# Altium footprint library Master.PcbLib: 26 footprints (part 1 of 2)
Each footprint in its own frame and in the unit in brackets; x right, y up, seen from the top. Pads: shape width x height; smd on the part's side, far side on the other; paste and mask are expansions set on the pad; w line width, h text height; cw(c..) or ccw(c..) is an arc to the next point about the centre after c.
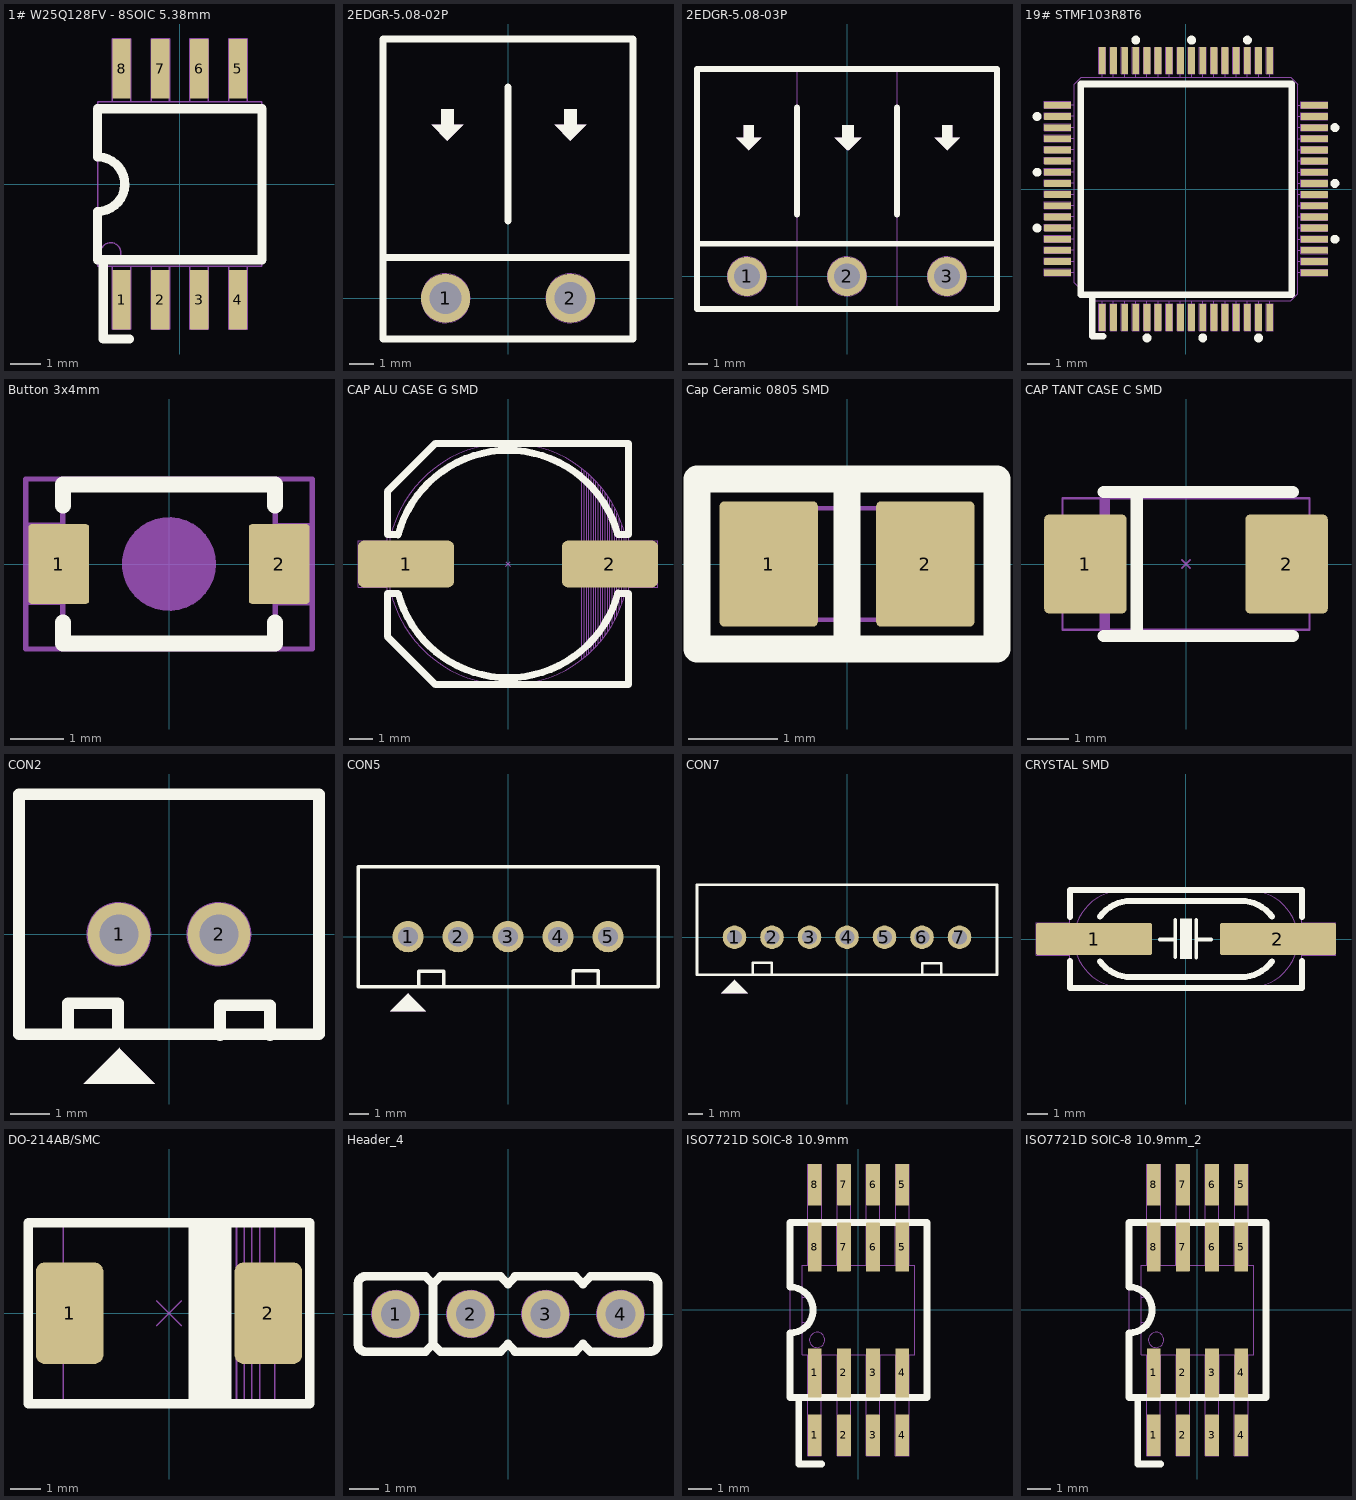
[diagram p0: the footprints below, top view; thin cyan lines are the x and y axes]

## 1# W25Q128FV - 8SOIC 5.38mm [mm] "8-Pin SOIC 208 mil"
height 2.16
pads (8):
  rrect10% 0.6x1.95 smd mask+0.1: 1(-1.905,-3.775) 2(-0.635,-3.775) 3(0.635,-3.775) 4(1.905,-3.775) 5(1.905,3.775) 6(0.635,3.775) 7(-0.635,3.775) 8(-1.905,3.775)
Top Overlay:
  lines w0.05: -2.42,-5.05 -2.4,-5.03
  lines w0.3: -2.69,-2.47 -2.69,-0.893 ccw(c-2.69,0) -2.645,0.892 ; -2.69,0.892 -2.69,2.47 2.69,2.47 2.69,-2.47 -2.5,-2.47 -2.5,-5.065 -1.639,-5.065
Mechanical 2:
  circle w0.05: c-2.26,-2.25 r0.334
  lines w0.05: -0.935,-2.69 -0.935,-4.75 -0.335,-4.75 -0.335,-2.69 ; -0.935,2.69 -0.935,4.75 -0.335,4.75 -0.335,2.69 ; 0.335,-2.69 0.335,-4.75 0.935,-4.75 0.935,-2.69 ; 0.335,2.69 0.335,4.75 0.935,4.75 0.935,2.69 ; 1.605,-2.69 1.605,-4.75 2.205,-4.75 2.205,-2.69 ; 1.605,2.69 1.605,4.75 2.205,4.75 2.205,2.69 ; -2.205,-4.75 -2.205,-2.69 -2.205,-4.75 ; -2.205,-4.75 -1.605,-4.75 ; -2.205,-4.75 -1.605,-4.75 ; -2.205,4.75 -1.605,4.75 ; -2.205,4.75 -2.205,2.69 -2.205,4.75 ; -2.205,4.75 -1.605,4.75 ; -1.605,-4.75 -1.605,-2.69 -1.605,-4.75 ; -1.605,4.75 -1.605,2.69 -1.605,4.75 ; -2.69,-2.69 -2.69,2.69 2.69,2.69 2.69,-2.69 -2.69,-2.69
  text ".Designator" at 0.03,-0.16 h0.4
  text "1" at -1.76,-2.51 h0.4
  text "4" at 1.82,-2.51 h0.4
  text "5" at 1.82,2.07 h0.4
  text "8" at -2.04,2.07 h0.4
3D body "User Library-SOIC8_(ATTINY12).step": height 2.22, standoff -0.1, extent -2.66,-4.356 2.72,4.036

## 2EDGR-5.08-02P [mm] "Terminal Block 2 Chân 5.08 Chân Cong 2EDG-5.08-2P-L"
height 8.6
pads (2):
  round 2 hole 1.3 mask+0.1: 1(-2.54,0) 2(2.54,0)
Top Overlay:
  region: 2.54,6.411 1.905,7.046 2.286,7.046 2.286,7.681 2.794,7.681 2.794,7.046 3.175,7.046
  region: -2.46,6.411 -3.095,7.046 -2.714,7.046 -2.714,7.681 -2.206,7.681 -2.206,7.046 -1.825,7.046
  lines w0.3: -5.08,1.658 5.08,1.658 ; -5.08,10.534 -5.08,-1.658 5.08,-1.658 5.08,10.54 -5.077,10.54 ; 0,3.155 0,8.583
Mechanical 2:
  circle w0.05: c2.54,0 r1
  circle w0.05: c-2.54,0 r1
  region: 2.54,6.411 1.905,7.046 2.286,7.046 2.286,7.681 2.794,7.681 2.794,7.046 3.175,7.046
  region: -2.46,6.411 -3.095,7.046 -2.714,7.046 -2.714,7.681 -2.206,7.681 -2.206,7.046 -1.825,7.046
  lines w0.05: -5.08,1.658 5.08,1.658 ; -5.08,10.534 -5.08,-1.658 5.08,-1.658 5.08,10.54 -5.077,10.54 ; 0,3.155 0,8.583
  text ".Designator" at 0,0 h0.4
3D body "User Library-2EDGR-5_08-02P.step": height 8.1, standoff -4.1, extent -5.08,-1.524 5.08,10.576

## 2EDGR-5.08-03P [mm] "Terminal Block 3 Chân 5.08 Chân Cong 3EDG-5.08-3P-L"
height 8.6
pads (3):
  round 2 hole 1.3 mask+0.1: 1(-5.08,0) 2(0,0) 3(5.08,0)
Top Overlay:
  region: 5.08,6.411 4.445,7.046 4.826,7.046 4.826,7.681 5.334,7.681 5.334,7.046 5.715,7.046
  region: 0.08,6.411 -0.555,7.046 -0.174,7.046 -0.174,7.681 0.334,7.681 0.334,7.046 0.715,7.046
  region: 0,6.411 -0.635,7.046 -0.254,7.046 -0.254,7.681 0.254,7.681 0.254,7.046 0.635,7.046
  region: -5,6.411 -5.635,7.046 -5.254,7.046 -5.254,7.681 -4.746,7.681 -4.746,7.046 -4.365,7.046
  lines w0.3: -7.62,1.658 2.54,1.658 ; -7.62,10.534 -7.62,-1.658 2.54,-1.658 ; -7.617,10.54 2.54,10.54 ; -2.54,-1.658 7.62,-1.658 7.62,10.54 -2.537,10.54 ; -2.54,1.658 7.62,1.658 ; -2.54,3.155 -2.54,8.583 ; 2.54,3.155 2.54,8.583
Mechanical 2:
  circle w0.05: c5.08,0 r1
  circle w0.05: c0,0 r1
  circle w0.05: c0,0 r1
  circle w0.05: c-5.08,0 r1
  region: 5.08,6.411 4.445,7.046 4.826,7.046 4.826,7.681 5.334,7.681 5.334,7.046 5.715,7.046
  region: 0.08,6.411 -0.555,7.046 -0.174,7.046 -0.174,7.681 0.334,7.681 0.334,7.046 0.715,7.046
  region: 0,6.411 -0.635,7.046 -0.254,7.046 -0.254,7.681 0.254,7.681 0.254,7.046 0.635,7.046
  region: -5,6.411 -5.635,7.046 -5.254,7.046 -5.254,7.681 -4.746,7.681 -4.746,7.046 -4.365,7.046
  lines w0.05: -7.62,1.658 2.54,1.658 ; -7.62,10.534 -7.62,-1.658 2.54,-1.658 2.54,10.54 -7.617,10.54 ; -2.54,1.658 7.62,1.658 ; -2.54,3.155 -2.54,8.583 ; -2.54,10.534 -2.54,-1.658 7.62,-1.658 7.62,10.54 -2.537,10.54 ; 2.54,3.155 2.54,8.583
  text "3" at 4.763,-0.484 h1
  text "1" at -5.216,-0.484 h1
  text ".Designator" at 0,0 h0.4
3D body "User Library-2EDGR-5_08-03P.step": height 8.1, standoff -4.1, extent -7.62,-1.524 7.62,10.576

## 19# STMF103R8T6 [mm] "LQFP64 – 10 x 10 mm 64 pin"
height 1.6
pads (64):
  rrect10% 0.3x1.2 smd mask+0.07: 1(-3.75,-5.75) 2(-3.25,-5.75) 3(-2.75,-5.75) 4(-2.25,-5.75) 5(-1.75,-5.75) 6(-1.25,-5.75) 7(-0.75,-5.75) 8(-0.25,-5.75) 9(0.25,-5.75) 10(0.75,-5.75) 11(1.25,-5.75) 12(1.75,-5.75) 13(2.25,-5.75) 14(2.75,-5.75) 15(3.25,-5.75) 16(3.75,-5.75) 33(3.75,5.75) 34(3.25,5.75) 35(2.75,5.75) 36(2.25,5.75) 37(1.75,5.75) 38(1.25,5.75) 39(0.75,5.75) 40(0.25,5.75) 41(-0.25,5.75) 42(-0.75,5.75) 43(-1.25,5.75) 44(-1.75,5.75) 45(-2.25,5.75) 46(-2.75,5.75) 47(-3.25,5.75) 48(-3.75,5.75)
  rrect10% 1.2x0.3 smd mask+0.07: 17(5.75,-3.75) 18(5.75,-3.25) 19(5.75,-2.75) 20(5.75,-2.25) 21(5.75,-1.75) 22(5.75,-1.25) 23(5.75,-0.75) 24(5.75,-0.25) 25(5.75,0.25) 26(5.75,0.75) 27(5.75,1.25) 28(5.75,1.75) 29(5.75,2.25) 30(5.75,2.75) 31(5.75,3.25) 32(5.75,3.75) 49(-5.75,3.75) 50(-5.75,3.25) 51(-5.75,2.75) 52(-5.75,2.25) 53(-5.75,1.75) 54(-5.75,1.25) 55(-5.75,0.75) 56(-5.75,0.25) 57(-5.75,-0.25) 58(-5.75,-0.75) 59(-5.75,-1.25) 60(-5.75,-1.75) 61(-5.75,-2.25) 62(-5.75,-2.75) 63(-5.75,-3.25) 64(-5.75,-3.75)
Top Overlay:
  circle w0.3: c0.75,-6.669 r0.05
  circle w0.3: c-1.75,-6.669 r0.05
  circle w0.3: c3.25,-6.669 r0.05
  circle w0.3: c6.669,-2.25 r0.05
  circle w0.3: c6.669,0.25 r0.05
  circle w0.3: c6.669,2.75 r0.05
  circle w0.3: c2.75,6.669 r0.05
  circle w0.3: c0.25,6.669 r0.05
  circle w0.3: c-2.25,6.669 r0.05
  circle w0.3: c-6.669,3.25 r0.05
  circle w0.3: c-6.669,0.75 r0.05
  circle w0.3: c-6.669,-1.75 r0.05
  lines w0.3: -4.2,-4.741 -4.2,-6.6 -3.7,-6.6 ; -4.717,-4.741 -4.717,4.7 4.74,4.7 4.74,-4.741 -4.717,-4.741
Mechanical 2:
  drawing of 352 lines, arcs and shapes, not listed
  text "64" at -3.86,-3.32 h0.8
  text "49" at -3.86,2.46 h0.8
  text "48" at -3.7,3.93 h0.8
  text "33" at 2.17,3.93 h0.8
  text "32" at 4.58,2.37 h0.8
  text "17" at 4.58,-3.42 h0.8
  text "16" at 2.52,-4.71 h0.8
  text "1" at -3.7,-4.71 h0.8
3D body "User Library-LQFP-64.step": height 1.6, standoff -0.11, extent -5.975,-5.956 6.025,6.044
3D body "User Library-LQFP64-1.STEP": height 1.56, standoff 0, extent -6,-6 6,6

## Button 3x4mm [mm] "SMD 3x4mm"
pads (2):
  rrect10% 1.143x1.5 smd: 1(-2.075,0) 2(2.075,0)
Top Overlay:
  lines w0.3: -2,-1.1 -2,-1.5 2,-1.5 2,-1.1 ; -2,1.1 -2,1.5 2,1.5 2,1.1
Mechanical 2:
  circle w0.05: c0,0 r0.861
  region: -0.085,-0.861 -0.251,-0.828 -0.408,-0.763 -0.549,-0.669 -0.669,-0.549 -0.763,-0.408 -0.828,-0.251 -0.861,-0.085 -0.861,0 -0.861,0.085 -0.828,0.251 -0.763,0.408 -0.669,0.549 -0.549,0.669 -0.408,0.763 -0.251,0.828 -0.085,0.861 0,0.861 0.085,0.861 0.251,0.828 0.408,0.763 0.549,0.669 0.669,0.549 0.763,0.408 0.828,0.251 0.861,0.085 0.861,-0.085 0.828,-0.251 0.763,-0.408 0.669,-0.549 0.549,-0.669 0.408,-0.763 0.251,-0.828 0.085,-0.861
  lines w0.05: -2.007,0.752 -2.64,0.752 -2.64,-0.744 -2,-0.744 ; 2,0.744 2.64,0.744 2.64,-0.752 2.007,-0.752 ; -2,-1.5 2,-1.5 2,1.5 -2,1.5 -2,-1.5
Mechanical 13:
  lines w0.1: -2,-1.5 -2,1.5 2,1.5 2,-1.5 -2,-1.5
Mechanical 15:
  lines w0.1: -0.5,0 0.5,0 ; 0,-0.5 0,0.5 ; -2.7,-1.6 -2.7,1.6 2.7,1.6 2.7,-1.6 -2.7,-1.6
3D body "SMT Tactile Switch PTS-820.STEP": height 2.05, standoff -0.5, extent -2.25,-1.55 2.25,1.55

## CAP ALU CASE G SMD [mm]
pads (2):
  rrect25% 4.1x2 smd mask+0.1: 1(-4.35,0) 2(4.35,0)
Top Overlay:
  lines w0.3: -4.688,-1.25 -5.15,-1.25 -5.15,-3.1 -3.1,-5.15 5.15,-5.15 5.15,-1.25 4.688,-1.25 ; -4.688,1.25 -5.15,1.25 -5.15,3.1 -3.1,5.15 5.15,5.15 5.15,1.25 4.688,1.25 ; -4.687,1.248 cw(c0,0) 4.685,1.252 ; -4.685,-1.252 ccw(c0,0) 4.687,-1.248
Mechanical 2:
  circle w0.05: c0,0 r5.15
  lines w0.05: -5.95,0 -5.65,0 ; -5.8,-0.15 -5.8,0.15 ; -5.15,-1 -6.4,-1 -6.4,1 -5.15,1 ; -0.1,-0.1 0.1,0.1 ; -0.1,0.1 0.1,-0.1 ; 3.15,-4.05 3.15,4.05 ; 3.25,-3.95 3.25,3.95 ; 3.35,-3.9 3.35,3.9 ; 3.45,-3.8 3.45,3.8 ; 3.55,-3.7 3.55,3.7 ; 3.65,-3.6 3.65,3.6 ; 3.75,-3.5 3.75,3.5 ; 3.85,-3.4 3.85,3.4 ; 3.95,-3.3 3.95,3.3 ; 4.05,-3.15 4.05,3.15 ; 4.15,-3.05 4.15,3.05 ; 4.25,-2.9 4.25,2.9 ; 4.35,-2.7 4.35,2.75 ; 4.45,-2.55 4.45,2.55 ; 4.55,-2.4 4.55,2.35 ; 4.65,-2.2 4.65,2.15 ; 4.75,-1.95 4.75,1.95 ; 4.85,-1.7 4.85,1.65 ; 4.95,-1.35 4.95,1.35 ; 5.05,-0.9 5.05,0.85 ; 5.15,-1 6.4,-1 6.4,1 5.15,1 ; -5.15,-3.1 -5.15,3.1 -3.1,5.15 5.15,5.15 5.15,-5.15 -3.1,-5.15 -5.15,-3.1
  text ".Designator" at 0,0.1 h0.4
3D body "User Library-ALU-G.STEP": height 10.2, standoff 0, extent -5.8,-5.15 5.8,5.15
3D body "User Library-ALU-G.STEP": height 10.2, standoff 0, extent -5.72,-5.149 5.88,5.151

## Cap Ceramic 0805 SMD [mm] "Reflow Soldering"
height 8.6
pads (2):
  rrect10% 1.1x1.4 smd mask+0.1: 1(-0.875,0) 2(0.875,0)
Top Overlay:
  lines w0.3: 0,-0.95 0,0.95 ; -1.675,-0.95 1.675,-0.95 1.675,0.95 -1.675,0.95 -1.675,-0.95
Mechanical 2:
  lines w0.05: -0.1,-0.1 0.1,0.1 ; -0.1,0.1 0.1,-0.1 ; -1,-0.625 1,-0.625 1,0.625 -1,0.625 -1,-0.625
  text ".Designator" at 0,0 h0.4
3D body "User Library-SMD CAPACITOR0805.STEP": height 0.65, standoff 0.05, extent -1,-0.625 1,0.625

## CAP TANT CASE C SMD [mm] "60x32mm"
height 2.8
pads (2):
  rrect10% 2x2.4 smd mask+0.1: 1(-2.45,0) 2(2.45,0)
Top Overlay:
  lines w0.3: -2,-1.752 2.6,-1.752 ; -2,1.752 2.6,1.752 ; -1.2,-1.752 -1.2,1.752
Mechanical 2:
  rectangle: -2.11,-1.6 -1.85,1.6
  lines w0.05: -2.67,0 -2.37,0 ; -2.52,-0.15 -2.52,0.15 ; -0.1,-0.1 0.1,0.1 ; -0.1,0.1 0.1,-0.1 ; -3,-1.6 3,-1.6 3,1.6 -3,1.6 -3,-1.6
  text ".Designator" at -0.1,-0.1 h0.4
3D body "User Library-CaseC_6032-28.STEP": height 2.6, standoff 0.1, extent -2.995,-1.601 3.005,1.599

## CON2 [mm] "CON2"
height 5.08
pads (2):
  round 1.6 hole 1 mask+0.1: 1(-1.27,0) 2(1.27,0)
Top Overlay:
  region: -2.172,-3.797 -0.368,-3.797 -1.257,-2.908 -1.257,-2.883
  lines w0.3: -2.565,-2.515 -2.565,-1.753 -1.295,-1.753 -1.295,-2.515 ; 1.295,-2.565 1.295,-1.803 2.565,-1.803 2.565,-2.565 ; -3.81,-2.54 -3.81,3.556 3.81,3.556 3.81,-2.54 -3.81,-2.54
Mechanical 2:
  circle w0.05: c-1.27,0 r0.8
  circle w0.05: c1.27,0 r0.8
  region: -2.172,-3.797 -0.368,-3.797 -1.257,-2.908 -1.257,-2.883
  lines w0.05: -2.565,-2.515 -2.565,-1.753 -1.295,-1.753 -1.295,-2.515 ; 1.295,-2.565 1.295,-1.803 2.565,-1.803 2.565,-2.565 ; -3.81,-2.54 3.81,-2.54 3.81,3.556 -3.81,3.556 -3.81,-2.54
  text "2" at 1,-0.5 h1
  text "1" at -1.4,-0.5 h1
  text ".Designator" at 0,0 h0.4
3D body "User Library-PW10_2.step": height 7, standoff -3.3, extent -3.75,-2.286 3.75,3.414

## CON5 [mm] "CON5"
height 5.08
pads (5):
  round 1.6 hole 1 mask+0.1: 1(-5.08,0) 2(-2.54,0) 3(0,0) 4(2.54,0) 5(5.08,0)
Top Overlay:
  region: -5.982,-3.797 -4.178,-3.797 -5.067,-2.908 -5.067,-2.883
  lines w0.178: -4.547,-2.515 -4.547,-1.753 -3.277,-1.753 -3.277,-2.515 ; 3.302,-2.489 3.302,-1.727 4.572,-1.727 4.572,-2.489 ; -7.62,-2.54 7.62,-2.54 7.62,0 7.62,3.556 -7.62,3.556 -7.62,-2.54
Mechanical 2:
  region: -5.982,-3.797 -4.178,-3.797 -5.067,-2.908 -5.067,-2.883
  lines w0.05: -4.547,-2.515 -4.547,-1.753 -3.277,-1.753 -3.277,-2.515 ; 3.302,-2.489 3.302,-1.727 4.572,-1.727 4.572,-2.489 ; -7.62,-2.54 7.62,-2.54 7.62,0 7.62,3.556 -7.62,3.556 -7.62,-2.54
  text ".Designator" at -1.5,2.1 h0.4
3D body "User Library-PW10_5.step": height 7, standoff -3.3, extent -7.5,-2.271 7.5,3.429

## CON7 [mm] "CON7"
height 5.08
pads (7):
  round 1.6 hole 1 mask+0.1: 1(-7.62,0) 2(-5.08,0) 3(-2.54,0) 4(0,0) 5(2.54,0) 6(5.08,0) 7(7.62,0)
Top Overlay:
  region: -8.522,-3.797 -6.718,-3.797 -7.607,-2.908 -7.607,-2.883
  lines w0.178: -6.375,-2.489 -6.375,-1.727 -5.105,-1.727 -5.105,-2.489 ; 5.105,-2.515 5.105,-1.753 6.375,-1.753 6.375,-2.515 ; -10.16,-2.54 10.16,-2.54 10.16,0 10.16,3.556 -10.16,3.556 -10.16,-2.54
Mechanical 2:
  region: -8.522,-3.797 -6.718,-3.797 -7.607,-2.908 -7.607,-2.883
  lines w0.05: -6.375,-2.489 -6.375,-1.727 -5.105,-1.727 -5.105,-2.489 ; 5.105,-2.515 5.105,-1.753 6.375,-1.753 6.375,-2.515 ; -10.16,-2.54 -10.16,3.556 10.16,3.556 10.16,0 10.16,-2.54 -10.16,-2.54
  text ".Designator" at -1.5,2.1 h0.4
3D body "User Library-PW10_7.step": height 7, standoff -3.3, extent -10.05,-2.286 10.05,3.414

## CRYSTAL SMD [mm] "Crystal SMD"
height 4.3
pads (2):
  rrect10% 5.8x1.6 smd mask+0.1: 1(-4.6,0) 2(4.6,0)
Top Overlay:
  region: 0.292,1.016 0.292,-0.991 -0.292,-0.991 -0.292,1.016
  lines w0.178: -1.321,-0.025 -0.533,-0.025 ; -0.533,-0.914 -0.533,0.965 ; 0.508,-0.94 0.508,0.965 ; 0.508,-0.025 1.27,-0.025
  lines w0.3: -5.8,-1.1 -5.8,-2.45 5.8,-2.45 5.8,-1.1 ; -5.8,1.1 -5.8,2.45 5.8,2.45 5.8,1.1 ; -4.295,-1.123 ccw(c-2.756,0) -2.75,-1.905 2.75,-1.905 ccw(c2.756,0) 4.295,-1.123 ; -4.295,1.123 cw(c-2.756,0) -2.75,1.905 2.75,1.905 cw(c2.756,0) 4.295,1.123
Mechanical 2:
  lines w0.05: -5.8,-0.8 -7.5,-0.8 -7.5,0.8 -5.8,0.8 ; -3.733,-2.35 3.733,-2.35 ; -3.733,-2.348 cw(c-3.175,0) -3.733,2.348 ; -3.733,2.35 3.733,2.35 ; 3.733,-2.348 ccw(c3.175,0) 3.733,2.348 ; 5.8,-0.8 7.5,-0.8 7.5,0.8 5.8,0.8 ; -5.8,-2.45 -5.8,2.45 5.8,2.45 5.8,-2.45 -5.8,-2.45
3D body "User Library-SMU-4.step": height 4, standoff 0, extent -6.3,-2.4 6.2,2.4
3D body "User Library-SMU-4.step": height 4, standoff 0, extent -6.2,-2.35 6.3,2.45

## DO-214AB/SMC [mm]
height 8.6
pads (2):
  rrect25% 2.2x3.3 smd mask+0.1: 1(-3.238,0) 2(3.238,0)
Top Overlay:
  rectangle: 0.63,-3 2.035,2.93
  lines w0.3: -4.59,-2.95 -4.59,2.95 4.59,2.95 4.59,-2.95 -4.59,-2.95
Mechanical 2:
  lines w0.05: -3.45,-1.5 -3.85,-1.5 -3.85,1.5 -3.45,1.5 ; -0.4,-0.4 0.4,0.4 ; -0.4,0.4 0.4,-0.4 ; 1.95,-2.95 1.95,2.95 ; 2.2,-2.95 2.2,2.95 ; 2.45,-2.95 2.45,2.95 ; 2.7,-2.95 2.7,2.95 ; 2.95,-2.95 2.95,2.95 ; 3.45,-1.5 3.85,-1.5 3.85,1.5 3.45,1.5 ; -3.45,-2.95 -3.45,2.95 3.45,2.95 3.45,-2.95 -3.45,-2.95
  text ".Designator" at 0,0 h0.4
  text "A" at -4.8,-0.6 h1
  text "K" at 3.7,-0.6 h1
3D body "SW3dPS-DO-214AB SMC.STEP": height 2.2, standoff -0.1, extent -4.102,-2.95 3.848,2.95

## Header_4 [mm] "Connector DIP, 4Pin_2.54mm"
height 5
pads (4):
  round 1.6 hole 1 mask+0.1: 1(-3.81,0) 2(-1.27,0) 3(1.27,0) 4(3.81,0)
Top Overlay:
  lines w0.3: -2.794,-1.28 -2.794,-1.27 ; -2.794,1.27 -2.54,1.016 ; -2.794,1.28 -4.84,1.28 ccw(c-4.82,1.02) -5.08,1 -5.08,-1 ccw(c-4.82,-1.02) -4.84,-1.28 -2.804,-1.28 -2.794,-1.27 ; -2.286,1.27 -2.54,1.016 ; -2.286,1.28 -0.254,1.28 -0.254,1.27 0,1.016 0.254,1.27 ; 0.24,-1.28 2.276,-1.28 2.286,-1.27 ; 0.24,1.28 2.286,1.28 ; 0.254,-1.27 0,-1.016 -0.254,-1.27 -0.254,-1.28 -2.286,-1.28 -2.54,-1.026 ; 2.286,-1.28 2.286,-1.27 ; 2.286,1.27 2.54,1.016 2.794,1.27 ; 2.794,1.28 4.826,1.28 4.826,1.27 ; 4.8,-1.28 ccw(c4.8,-1) 5.08,-1 5.08,1 ccw(c4.8,1) 4.8,1.28 ; 4.826,-1.27 4.826,-1.28 2.794,-1.28 2.54,-1.026 2.54,-1.016 2.286,-1.27 ; -2.794,-1.27 -2.54,-1.016 -2.54,-1.026 ; -2.54,-1.026 -2.54,1.016
Mechanical 2:
  circle w0.05: c-1.27,0 r0.8
  circle w0.05: c3.81,0 r0.8
  circle w0.05: c1.27,0 r0.8
  circle w0.05: c-3.81,0 r0.8
  circle w0.05: c-3.81,0 r0.8
  lines w0.05: -2.794,-1.28 -2.794,-1.27 ; -2.794,1.27 -2.54,1.016 ; -2.794,1.28 -4.84,1.28 ccw(c-4.82,1.02) -5.08,1 -5.08,-1 ccw(c-4.82,-1.02) -4.84,-1.28 -2.804,-1.28 -2.794,-1.27 ; -2.286,1.27 -2.54,1.016 ; -2.286,1.28 -0.254,1.28 -0.254,1.27 0,1.016 0.254,1.27 ; 0.24,-1.28 2.276,-1.28 2.286,-1.27 ; 0.24,1.28 2.286,1.28 ; 0.254,-1.27 0,-1.016 -0.254,-1.27 -0.254,-1.28 -2.286,-1.28 -2.54,-1.026 -2.54,-1.016 ; 2.286,-1.28 2.286,-1.27 ; 2.286,1.27 2.54,1.016 2.794,1.27 ; 2.54,-1.026 2.794,-1.28 4.826,-1.28 4.826,-1.27 ; 2.54,-1.016 2.286,-1.27 ; 2.794,1.28 4.826,1.28 4.826,1.27 ; 4.8,-1.28 ccw(c4.8,-1) 5.08,-1 5.08,1 ccw(c4.8,1) 4.8,1.28 ; -2.794,-1.27 -2.54,-1.016 ; -2.54,-1.016 -2.54,1.016
  text ".Designator" at -0.05,-0.05 h0.4
  text "4" at 3.556,-0.254 h1.2
  text "1" at -4.064,-0.254 h1.2
3D body "Header 1x4.STEP": height 10.1, standoff -1.5, extent -5.08,-1.27 5.08,1.27

## ISO7721D SOIC-8 10.9mm [mm] "SOIC-8 10.9mm"
height 8.6
pads (16):
  rrect10% 0.6x1.8 smd mask+0.07: 1(-1.905,-5.45) 2(-0.635,-5.45) 3(0.635,-5.45) 4(1.905,-5.45) 5(1.905,5.45) 6(0.635,5.45) 7(-0.635,5.45) 8(-1.905,5.45)
  rrect10% 0.6x2.135 smd mask+0.1: 1(-1.905,-2.732) 2(-0.635,-2.732) 3(0.635,-2.732) 4(1.905,-2.732) 5(1.905,2.733) 6(0.635,2.733) 7(-0.635,2.733) 8(-1.905,2.733)
Top Overlay:
  lines w0.3: -2.975,-1 ccw(c-2.975,0) -2.975,1 -2.975,1.9 -2.975,3.8 0,3.8 2.975,3.8 2.975,-3.8 -2.975,-3.8 -2.975,-1.9 -2.975,-1 ; -2.6,-3.8 -2.6,-6.7 -1.6,-6.7 ; -2.204,-3.807 -1.612,-3.807 ; -0.934,-3.807 -0.342,-3.807 ; -0.928,3.807 -0.336,3.807 ; 0.336,-3.807 0.928,-3.807 ; 0.342,3.807 0.934,3.807 ; 1.612,3.807 2.204,3.807 ; -2.198,3.807 -1.606,3.807 -2.198,3.807 ; 1.606,-3.807 2.198,-3.807 1.606,-3.807
Mechanical 2:
  circle w0.05: c-1.8,-1.3 r0.334
  lines w0.05: -2.975,-1 ccw(c-2.975,0) -2.975,1 ; -2.45,-0.532 ccw(c-2.45,0) -2.45,0.532 ; -2.21,1.95 -2.21,3.8 -1.61,3.8 -1.61,1.95 ; -2.204,-6.348 -1.612,-6.348 -1.612,-3.807 -2.204,-3.807 -2.204,-6.346 ; -2.2,-1.95 -2.2,-3.8 -1.6,-3.8 -1.6,-1.95 ; -0.94,1.95 -0.94,3.8 -0.34,3.8 -0.34,1.95 ; -0.934,-6.348 -0.342,-6.348 -0.342,-3.807 -0.934,-3.807 -0.934,-6.346 ; -0.93,-1.95 -0.93,-3.8 -0.33,-3.8 -0.33,-1.95 ; -0.336,6.346 -0.336,3.807 -0.928,3.807 -0.928,6.348 -0.336,6.348 ; 0.33,1.95 0.33,3.8 0.93,3.8 0.93,1.95 ; 0.336,-6.348 0.928,-6.348 0.928,-3.807 0.336,-3.807 0.336,-6.346 ; 0.34,-1.95 0.34,-3.8 0.94,-3.8 0.94,-1.95 ; 0.934,6.346 0.934,3.807 0.342,3.807 0.342,6.348 0.934,6.348 ; 1.6,1.95 1.6,3.8 2.2,3.8 2.2,1.95 ; 1.61,-1.95 1.61,-3.8 2.21,-3.8 2.21,-1.95 ; 2.204,6.346 2.204,3.807 1.612,3.807 1.612,6.348 2.204,6.348 ; -2.198,3.807 -2.198,6.348 ; -2.198,3.807 -2.198,6.348 ; -2.198,3.807 -1.606,3.807 ; -2.198,3.807 -1.606,3.807 ; -2.198,6.348 -1.606,6.348 -2.198,6.348 ; -1.606,3.807 -1.606,6.346 -1.606,3.807 ; 1.606,-3.807 1.606,-6.346 1.606,-3.807 ; 1.606,-3.807 2.198,-3.807 ; 1.606,-3.807 2.198,-3.807 ; 2.198,-6.348 2.198,-3.807 ; 2.198,-6.348 1.606,-6.348 2.198,-6.348 ; 2.198,-6.348 2.198,-3.807 ; -2.975,-3.8 -2.975,3.8 0,3.8 2.975,3.8 2.975,-3.8 -2.975,-3.8 ; -2.45,-1.95 -2.45,1.95 2.45,1.95 2.45,-1.95 -2.45,-1.95
  text "8" at -2.24,0.712 h1
  text "5" at 1.62,0.712 h1
  text ".Designator" at 0,0 h0.4
  text "4" at 1.6,-1.7 h1
  text "8" at -2.3,2.6 h1
  text "5" at 1.6,2.6 h1
  text "1" at -2.1,-3.6 h1
  text "4" at 1.6,-3.6 h1
3D body "User Library-SOIC-8-1.step": height 1.75, standoff 0, extent -2.45,-3 2.45,3
3D body "User Library-SOIC-8-1 (2).step": height 1.75, standoff 0, extent -2.45,-3 2.45,3

## ISO7721D SOIC-8 10.9mm_2 [mm]
pads (16):
  rrect10% 0.6x1.8 smd mask+0.07: 1(-1.905,-5.45) 2(-0.635,-5.45) 3(0.635,-5.45) 4(1.905,-5.45) 5(1.905,5.45) 6(0.635,5.45) 7(-0.635,5.45) 8(-1.905,5.45)
  rrect10% 0.6x2.135 smd mask+0.1: 1(-1.905,-2.732) 2(-0.635,-2.732) 3(0.635,-2.732) 4(1.905,-2.732) 5(1.905,2.733) 6(0.635,2.733) 7(-0.635,2.733) 8(-1.905,2.733)
Top Overlay:
  lines w0.3: -2.975,-1 ccw(c-2.975,0) -2.975,1 -2.975,1.9 -2.975,3.8 0,3.8 2.975,3.8 2.975,-3.8 -2.975,-3.8 -2.975,-1.9 -2.975,-1 ; -2.6,-3.8 -2.6,-6.7 -1.6,-6.7 ; -2.204,-3.807 -1.612,-3.807 ; -0.934,-3.807 -0.342,-3.807 ; -0.928,3.807 -0.336,3.807 ; 0.336,-3.807 0.928,-3.807 ; 0.342,3.807 0.934,3.807 ; 1.612,3.807 2.204,3.807 ; -2.198,3.807 -1.606,3.807 -2.198,3.807 ; 1.606,-3.807 2.198,-3.807 1.606,-3.807
Mechanical 2:
  circle w0.05: c-1.8,-1.3 r0.334
  lines w0.05: -2.975,-1 ccw(c-2.975,0) -2.975,1 ; -2.45,-0.532 ccw(c-2.45,0) -2.45,0.532 ; -2.21,1.95 -2.21,3.8 -1.61,3.8 -1.61,1.95 ; -2.204,-6.348 -1.612,-6.348 -1.612,-3.807 -2.204,-3.807 -2.204,-6.346 ; -2.2,-1.95 -2.2,-3.8 -1.6,-3.8 -1.6,-1.95 ; -0.94,1.95 -0.94,3.8 -0.34,3.8 -0.34,1.95 ; -0.934,-6.348 -0.342,-6.348 -0.342,-3.807 -0.934,-3.807 -0.934,-6.346 ; -0.93,-1.95 -0.93,-3.8 -0.33,-3.8 -0.33,-1.95 ; -0.336,6.346 -0.336,3.807 -0.928,3.807 -0.928,6.348 -0.336,6.348 ; 0.33,1.95 0.33,3.8 0.93,3.8 0.93,1.95 ; 0.336,-6.348 0.928,-6.348 0.928,-3.807 0.336,-3.807 0.336,-6.346 ; 0.34,-1.95 0.34,-3.8 0.94,-3.8 0.94,-1.95 ; 0.934,6.346 0.934,3.807 0.342,3.807 0.342,6.348 0.934,6.348 ; 1.6,1.95 1.6,3.8 2.2,3.8 2.2,1.95 ; 1.61,-1.95 1.61,-3.8 2.21,-3.8 2.21,-1.95 ; 2.204,6.346 2.204,3.807 1.612,3.807 1.612,6.348 2.204,6.348 ; -2.198,3.807 -2.198,6.348 ; -2.198,3.807 -2.198,6.348 ; -2.198,3.807 -1.606,3.807 ; -2.198,3.807 -1.606,3.807 ; -2.198,6.348 -1.606,6.348 -2.198,6.348 ; -1.606,3.807 -1.606,6.346 -1.606,3.807 ; 1.606,-3.807 1.606,-6.346 1.606,-3.807 ; 1.606,-3.807 2.198,-3.807 ; 1.606,-3.807 2.198,-3.807 ; 2.198,-6.348 2.198,-3.807 ; 2.198,-6.348 1.606,-6.348 2.198,-6.348 ; 2.198,-6.348 2.198,-3.807 ; -2.975,-3.8 -2.975,3.8 0,3.8 2.975,3.8 2.975,-3.8 -2.975,-3.8 ; -2.45,-1.95 -2.45,1.95 2.45,1.95 2.45,-1.95 -2.45,-1.95
  text "8" at -2.24,0.712 h1
  text "5" at 1.62,0.712 h1
  text ".Designator" at 0,0 h0.4
  text "4" at 1.6,-1.7 h1
  text "8" at -2.3,2.6 h1
  text "5" at 1.6,2.6 h1
  text "1" at -2.1,-3.6 h1
  text "4" at 1.6,-3.6 h1
3D body "User Library-SOIC-8-1.step": height 1.75, standoff 0, extent -2.45,-3 2.45,3
3D body "User Library-SOIC-8-1 (2).step": height 1.75, standoff 0, extent -2.45,-3 2.45,3